# Altium schematic symbol library HT7833.SchLib: 1 symbol
Pins are listed as number, name and electrical type; pins without a type are passive.

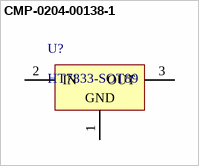
[diagram p0: symbol CMP-0204-00138-1]

## CMP-0204-00138-1
designator U?, comment HT7833-SOT89
500mA TinyPower LDO, Output Voltage 3.3V, SOT89 Pkg; DatasheetVersion: Rev1.10, Sep-2008; Code_IPC: SOT89; PackageReference: SOT89; PackageVersion: May-2010; PackageDescription: 3-Pin SOT-89 Package 1.5 mm Pitch, 4.1 mm Lead Span
footprint SOT89_L (SOT89, 3-Leads, Body 4.5x2.4 mm, Pitch 1.5mm, Lead Span 4.1mm, IPC High Density)
footprint SOT89_N (SOT89, 3-Leads, Body 4.5x2.4 mm, Pitch 1.5mm, Lead Span 4.1mm, IPC Medium Density)
footprint SOT89_M (SOT89, 3-Leads, Body 4.5x2.4 mm, Pitch 1.5mm, Lead Span 4.1mm, IPC Low Density)
pins: 1 GND (power), 2 IN (power), 3 OUT (power)